# Altium schematic symbol library L7805ACD2T-TR.SchLib: 1 symbol
Pins are listed as number, name and electrical type; pins without a type are passive.

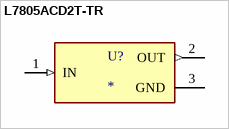
[diagram p0: symbol L7805ACD2T-TR]

## L7805ACD2T-TR
designator U?
Positive voltage regulator ICs; MF: {'manufacturer': u'STMicroelectronics'}; MP: L7805ACD2T-TR; Package: None; Price: None; Value: *; Availability: Unavailable
footprint TO254P1515X470-3N
pins: 1 IN (in), 2 OUT (out), 3 GND (power)